# EAGLE library part BUTTON_SWITCH_VERTICAL (library _zEROID)
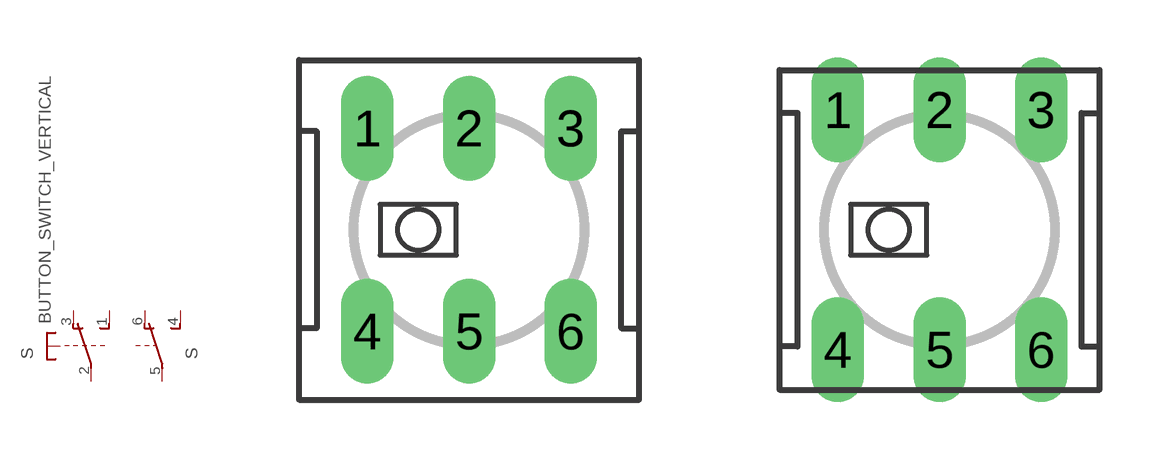
[diagram p0: symbol with the pads of BUTTON_8.5X8.5_GREY; footprints BUTTON_8.5X8.5_GREY, BUTTON_8X8_B]

Designator prefix S; gates 1=TSU- 2=U-2

## BUTTON_SWITCH_VERTICALGREY  [BUTTON_8.5X8.5_GREY]
1  1:S  pas
2  1:P  pas
3  1:O  pas
4  2:S  pas
5  2:P  pas
6  2:O  pas

## BUTTON_SWITCH_VERTICALBLUE  [BUTTON_8X8_B]
1  1:P  pas
2  1:S  pas
3  1:O  pas
4  2:O  pas
5  2:S  pas
6  2:P  pas

## Footprint BUTTON_8.5X8.5_GREY (pad centres in mm)
MARQUARDT SWITCH 9077.0200 Distributor: Buerklin <https://www.buerklin.com/default.asp?event=ShowArtikel%2812G2822%29&l=d&jump=ArtNr_12G2822>
drill 0.8 long: 1 -2.54,2.54; 2 0,2.54; 3 2.54,2.54; 4 -2.54,-2.54; 5 0,-2.54; 6 2.54,-2.54

## Footprint BUTTON_8X8_B (pad centres in mm)
drill 0.8 long: 1 -2.54,3; 2 0,3; 3 2.54,3; 4 -2.54,-3; 5 0,-3; 6 2.54,-3